# EAGLE library part IC-MHM (library ic-mhm)
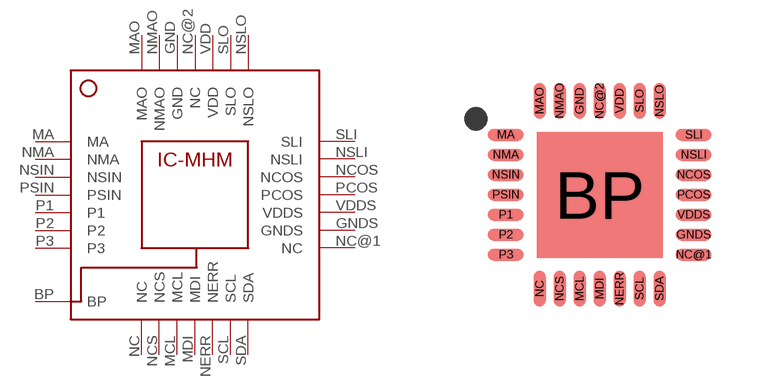
[diagram p5: symbol with the pads of IC-MHM; footprint IC-MHM]

Designator prefix -

## IC-MHM  [IC-MHM]
BP  BP
GND  GND
GNDS  GNDS
MA  MA
MAO  MAO
MCL  MCL
MDI  MDI
NC  NC
NC@1  NC
NC@2  NC
NCOS  NCOS
NCS  NCS
NERR  NERR
NMA  NMA
NMAO  NMAO
NSIN  NSIN
NSLI  NSLI
NSLO  NSLO
P1  P1
P2  P2
P3  P3
PCOS  PCOS
PSIN  PSIN
SCL  SCL
SDA  SDA
SLI  SLI
SLO  SLO
VDD  VDD
VDDS  VDDS

## Footprint IC-MHM (pad centres in mm)
smd 3.15 x 3.15: BP 0,0
smd 0.3 x 0.9: GND -0.5,2.35; MAO -1.5,2.35; MCL -0.5,-2.35; MDI 0,-2.35; NC -1.5,-2.35; NC@2 0,2.35; NCS -1,-2.35; NERR 0.5,-2.35; NMAO -1,2.35; NSLO 1.5,2.35; SCL 1,-2.35; SDA 1.5,-2.35; SLO 1,2.35; VDD 0.5,2.35
smd 0.9 x 0.3: GNDS 2.35,-1; MA -2.35,1.5; NC@1 2.35,-1.5; NCOS 2.35,0.5; NMA -2.35,1; NSIN -2.35,0.5; NSLI 2.35,1; P1 -2.35,-0.5; P2 -2.35,-1; P3 -2.35,-1.5; PCOS 2.35,0; PSIN -2.35,0; SLI 2.35,1.5; VDDS 2.35,-0.5